# EAGLE library part STC15F100 (library SparkFun-FreqCtrl)
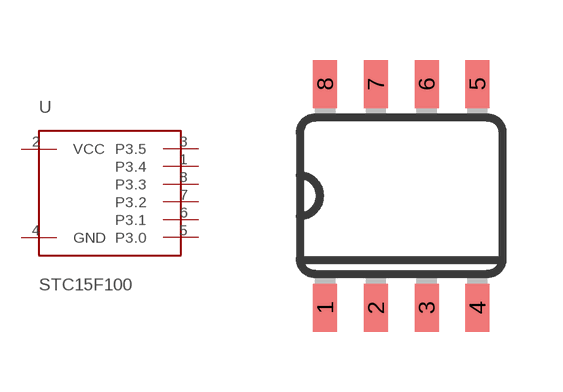
[diagram p3: symbol with the pads of SO08-TIGHT; footprint SO08-TIGHT]

Designator prefix -

## STC15F100  [SO08-TIGHT]
1  P3.4
2  VCC
3  P3.5
4  GND
5  P3.0
6  P3.1
7  P3.2
8  P3.3

## Footprint SO08-TIGHT (pad centres in mm)
smd 0.6 x 1.2: 1 -1.905,-2.8; 2 -0.635,-2.8; 3 0.635,-2.8; 4 1.905,-2.8; 5 1.905,2.8; 6 0.635,2.8; 7 -0.635,2.8; 8 -1.905,2.8